# Altium footprint library DSUB1.385-2H9-FEMALE.PcbLib: 1 footprints
Each footprint in its own frame and in the unit in brackets; x right, y up, seen from the top. Pads: shape width x height; smd on the part's side, far side on the other; paste and mask are expansions set on the pad; w line width, h text height; cw(c..) or ccw(c..) is an arc to the next point about the centre after c.
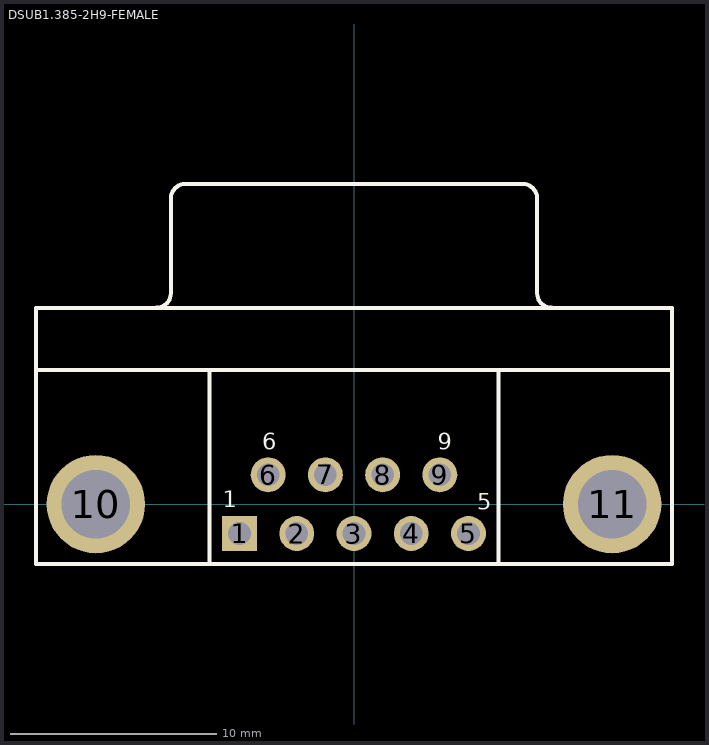
[diagram p0: the footprint, top view; thin cyan lines are the x and y axes]

## DSUB1.385-2H9-FEMALE [mm] "Connector; D Subminiature; 9 Position; Right Angle; Pitch 1.385 mm"
height 1
pads (11):
  rect 1.69x1.69 hole 1.1: 1(-5.54,-1.42)
  round 1.69 hole 1.1: 2(-2.77,-1.42) 3(0,-1.42) 4(2.77,-1.42) 5(5.54,-1.42) 6(-4.155,1.42) 7(-1.385,1.42) 8(1.385,1.42) 9(4.155,1.42)
  round 4.76 hole 3.3: 10(-12.495,0) 11(12.495,0)
Top Overlay:
  lines w0.2: -15.4,6.5 15.4,6.5 ; -9.56,9.505 ccw(c-9.56,10.2) -8.865,10.2 ; -8.865,10.2 -8.865,14.8 ; -8.86,14.805 cw(c-8.165,14.805) -8.165,15.5 8.165,15.5 cw(c8.165,14.805) 8.86,14.805 ; -7,-2.9 -7,6.5 ; 7,-2.9 7,6.5 ; 8.865,10.2 ccw(c9.56,10.2) 9.56,9.505 ; 8.865,10.2 8.865,14.8 ; -15.4,-2.9 15.4,-2.9 15.4,9.5 -15.4,9.5 -15.4,-2.9
  text "6" at -4.445,2.642 h0.8
  text "9" at 4.064,2.642 h0.8
  text "5" at 5.969,-0.279 h0.8
  text "1" at -6.35,-0.152 h0.8